# Altium schematic symbol library NCP2820.Schlib: 1 symbol
Pins are listed as number, name and electrical type; pins without a type are passive.

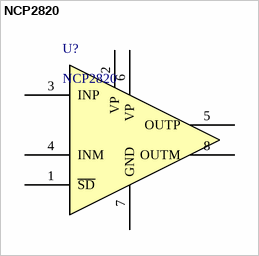
[diagram p0: symbol NCP2820]

## NCP2820
designator U?
pins: 1 ~{SD}, 2 VP, 3 INP, 4 INM, 5 OUTP, 6 VP, 7 GND, 8 OUTM